# Altium footprint library SG__PCB_Chip.PcbLib: 121 footprints (part 3 of 8)
Each footprint in its own frame and in the unit in brackets; x right, y up, seen from the top. Pads: shape width x height; smd on the part's side, far side on the other; paste and mask are expansions set on the pad; w line width, h text height; cw(c..) or ccw(c..) is an arc to the next point about the centre after c.
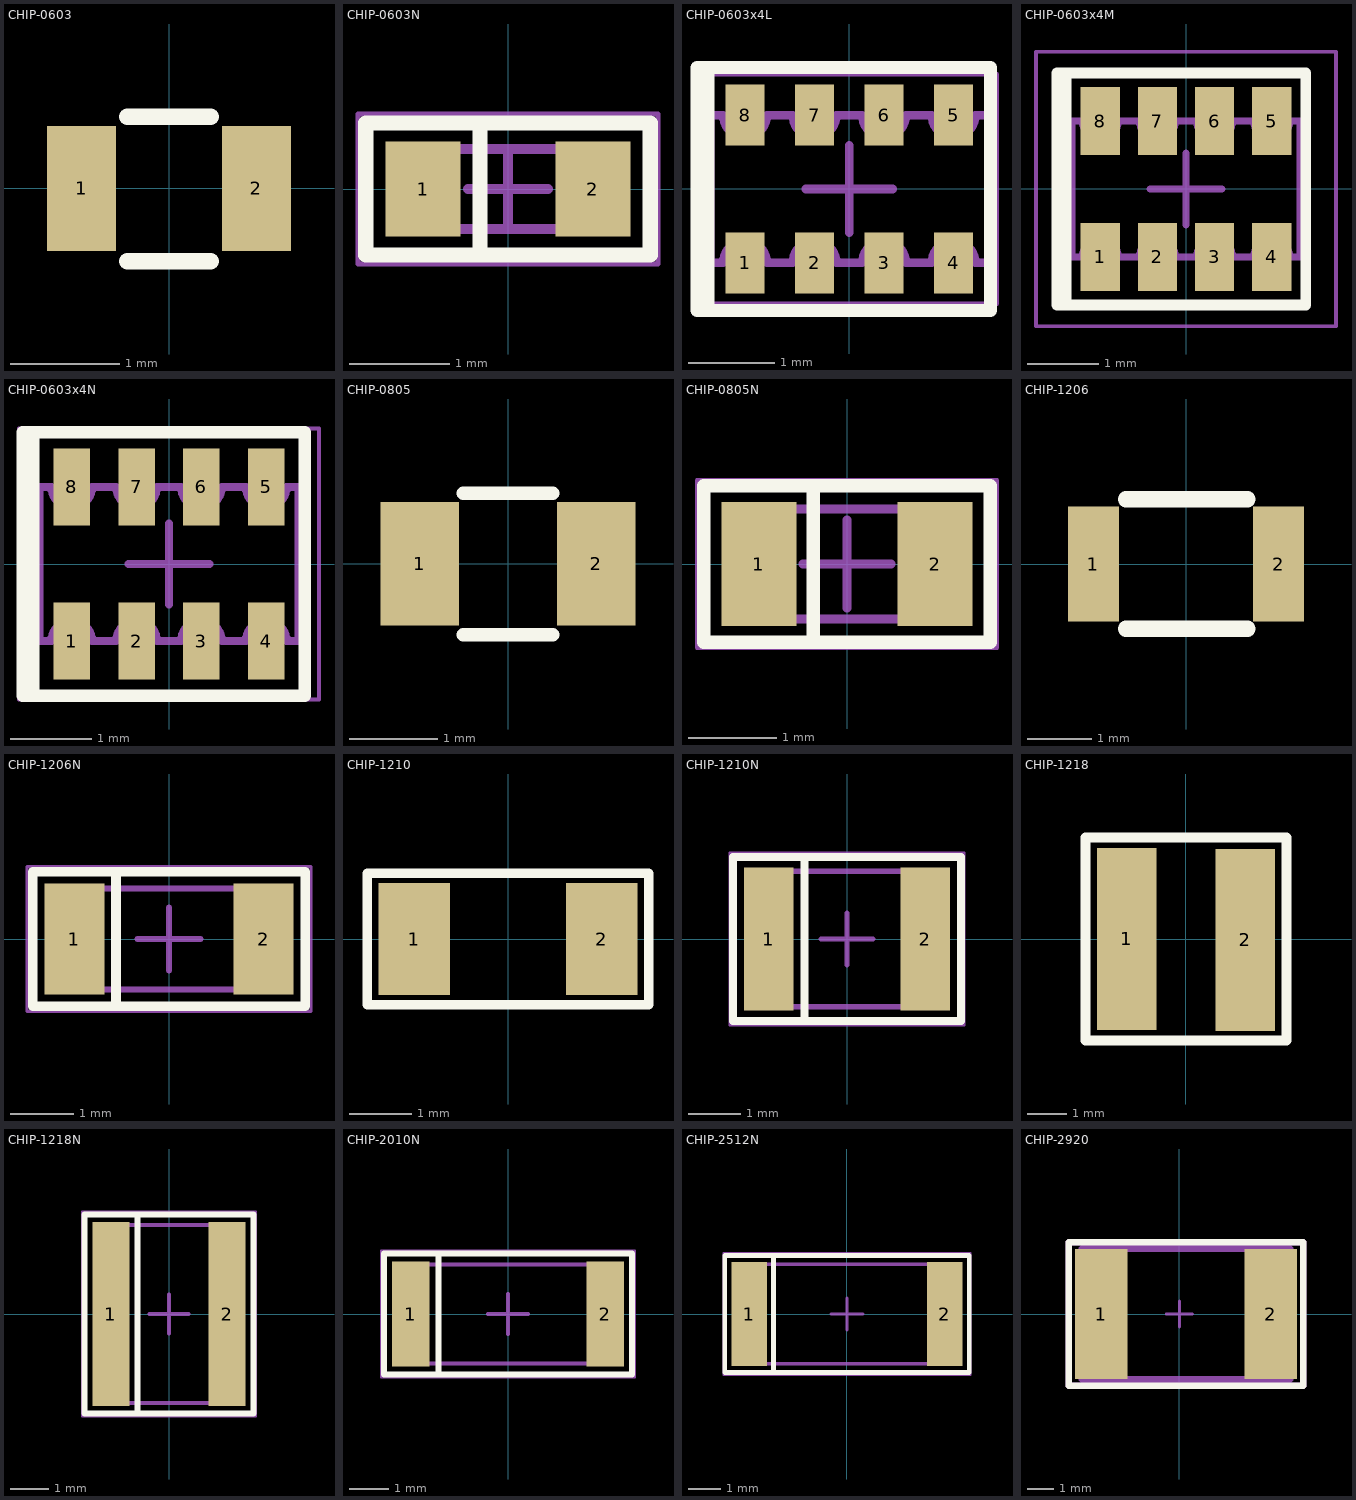
[diagram p2: the footprints below, top view; thin cyan lines are the x and y axes]

## CHIP-0603 [mm]
pads (2):
  rect 0.635x1.143 smd mask+0.05: 1(-0.8,0) 2(0.8,0)
Top Overlay:
  lines w0.152: -0.381,-0.667 0.381,-0.667 ; -0.381,0.654 0.381,0.654

## CHIP-0603N [mm]
height 0.45
pads (2):
  rect 0.75x0.95 smd: 1(-0.85,0) 2(0.85,0)
Top Overlay:
  lines w0.152: -1.27,-0.66 -1.422,-0.66 ; -0.33,0.66 -0.279,0.66 -0.279,-0.66 ; -1.422,-0.66 -1.422,-0.127 -1.422,0.66 0,0.66 1.422,0.66 1.422,0 1.422,-0.66 -1.422,-0.66
Assembly Top:
  lines w0.1: -0.8,-0.4 0.8,-0.4 0.8,0.4 -0.8,0.4 -0.8,-0.4
Courtyard Top:
  lines w0.05: -1.5,-0.75 1.5,-0.75 1.5,0.75 -1.5,0.75 -1.5,-0.75
  lines w0.1: -0.4,0 0.4,0 ; 0,-0.4 0,0.4
3D body: height 0.45, standoff 0, extent 0.55,-0.4 0.8,0.4
3D body: height 0.45, standoff 0, extent -0.8,-0.4 -0.55,0.4
3D body: height 0.45, standoff 0, extent -0.55,-0.4 0.55,0.4

## CHIP-0603x4L [mm] "Chip Array, Concave, 8-Leads, Pitch 0,80mm,  Body 3,20x1,60mm,  IPC High Density"
height 0.6
pads (8):
  rect 0.45x0.7 smd: 1(-1.2,-0.85) 2(-0.4,-0.85) 3(0.4,-0.85) 4(1.2,-0.85) 5(1.2,0.85) 6(0.4,0.85) 7(-0.4,0.85) 8(-1.2,0.85)
Top Overlay:
  lines w0.152: -1.499,-1.397 -1.753,-1.397 -1.753,0.051 -1.753,1.397 -1.448,1.397 ; 1.625,-0.838 1.625,1.397 0.584,1.397 -1.626,1.397 -1.626,0.381 -1.626,-1.397 1.346,-1.397 1.625,-1.397 1.625,-0.762
Assembly Top:
  lines w0.1: -1.6,-0.85 -1.45,-0.85 cw(c-1.2,-0.85) -0.95,-0.85 -0.65,-0.85 cw(c-0.4,-0.85) -0.15,-0.85 0.15,-0.85 cw(c0.4,-0.85) 0.65,-0.85 0.95,-0.85 cw(c1.2,-0.85) 1.45,-0.85 1.6,-0.85 1.6,0.85 1.45,0.85 cw(c1.2,0.85) 0.95,0.85 0.65,0.85 cw(c0.4,0.85) 0.15,0.85 -0.15,0.85 cw(c-0.4,0.85) -0.65,0.85 -0.95,0.85 cw(c-1.2,0.85) -1.45,0.85 -1.6,0.85 -1.6,-0.85
Courtyard Top:
  lines w0.05: -1.7,-1.32 -1.7,1.32 1.7,1.32 1.7,-1.32 -1.7,-1.32
  lines w0.1: -0.5,0 0.5,0 ; 0,-0.5 0,0.5
3D body "CAC-80P320X160-8L.step": height 0.6, standoff 0, extent -1.6,-0.85 1.6,0.85

## CHIP-0603x4M [mm] "Chip Array, Concave, 8-Leads, Pitch 0,80mm,  Body 3,20x1,60mm,  IPC Low Density"
height 0.6
pads (8):
  rect 0.55x0.95 smd: 1(-1.2,-0.95) 2(-0.4,-0.95) 3(0.4,-0.95) 4(1.2,-0.95) 5(1.2,0.95) 6(0.4,0.95) 7(-0.4,0.95) 8(-1.2,0.95)
Top Overlay:
  lines w0.152: -1.55,-1.626 -1.804,-1.626 -1.804,-0.66 -1.804,1.626 -1.423,1.626 ; 1.676,-1.397 1.676,1.626 1.371,1.626 -1.423,1.626 ; 1.676,-1.372 1.676,-1.626 -0.508,-1.626 -1.677,-1.626 -1.677,0.483 -1.677,1.626 -1.423,1.626
Assembly Top:
  lines w0.1: -1.6,-0.95 -1.45,-0.95 cw(c-1.2,-0.95) -0.95,-0.95 -0.65,-0.95 cw(c-0.4,-0.95) -0.15,-0.95 0.15,-0.95 cw(c0.4,-0.95) 0.65,-0.95 0.95,-0.95 cw(c1.2,-0.95) 1.45,-0.95 1.6,-0.95 1.6,0.95 1.45,0.95 cw(c1.2,0.95) 0.95,0.95 0.65,0.95 cw(c0.4,0.95) 0.15,0.95 -0.15,0.95 cw(c-0.4,0.95) -0.65,0.95 -0.95,0.95 cw(c-1.2,0.95) -1.45,0.95 -1.6,0.95 -1.6,-0.95
Courtyard Top:
  lines w0.05: -2.1,-1.92 -2.1,1.92 2.1,1.92 2.1,-1.92 -2.1,-1.92
  lines w0.1: -0.5,0 0.5,0 ; 0,-0.5 0,0.5
3D body "CAC-80P320X160-8M.step": height 0.6, standoff 0, extent -1.6,-0.85 1.6,0.85

## CHIP-0603x4N [mm] "Chip Array, Concave, 8-Leads, Pitch 0,80mm,  Body 3,20x1,60mm,  IPC Medium Density"
height 0.6
pads (8):
  rect 0.45x0.95 smd: 1(-1.2,-0.95) 2(-0.4,-0.95) 3(0.4,-0.95) 4(1.2,-0.95) 5(1.2,0.95) 6(0.4,0.95) 7(-0.4,0.95) 8(-1.2,0.95)
Top Overlay:
  lines w0.152: -1.6,-1.626 -1.803,-1.626 -1.803,1.473 -1.803,1.626 -1.499,1.626 ; 1.676,-1.448 1.676,1.626 1.245,1.626 -1.676,1.626 -1.676,1.295 -1.676,-1.626 -0.102,-1.626 1.676,-1.626 1.676,-1.372
Assembly Top:
  lines w0.1: -1.6,-0.95 -1.45,-0.95 cw(c-1.2,-0.95) -0.95,-0.95 -0.65,-0.95 cw(c-0.4,-0.95) -0.15,-0.95 0.15,-0.95 cw(c0.4,-0.95) 0.65,-0.95 0.95,-0.95 cw(c1.2,-0.95) 1.45,-0.95 1.6,-0.95 1.6,0.95 1.45,0.95 cw(c1.2,0.95) 0.95,0.95 0.65,0.95 cw(c0.4,0.95) 0.15,0.95 -0.15,0.95 cw(c-0.4,0.95) -0.65,0.95 -0.95,0.95 cw(c-1.2,0.95) -1.45,0.95 -1.6,0.95 -1.6,-0.95
Courtyard Top:
  lines w0.05: -1.85,-1.67 -1.85,1.67 1.85,1.67 1.85,-1.67 -1.85,-1.67
  lines w0.1: -0.5,0 0.5,0 ; 0,-0.5 0,0.5
3D body "CAC-80P320X160-8N.step": height 0.6, standoff 0, extent -1.6,-0.85 1.6,0.85

## CHIP-0805 [mil]
pads (2):
  rect 35x55 smd mask+1.97: 1(-39.37,0) 2(39.37,0)
Top Overlay:
  lines w6: -20,-31.61 20,-31.61 ; -20,31.39 20,31.39

## CHIP-0805N [mm]
height 0.5
pads (2):
  rect 0.85x1.4 smd: 1(-1,0) 2(1,0)
Top Overlay:
  lines w0.152: -1.575,-0.889 1.626,-0.889 1.626,-0.203 1.626,0.889 0.584,0.889 -1.626,0.889 -1.626,-0.381 -1.626,-0.889 -1.524,-0.889 ; -0.406,0.889 -0.381,0.889 -0.381,-0.889
Assembly Top:
  lines w0.1: -1,-0.625 1,-0.625 1,0.625 -1,0.625 -1,-0.625
Courtyard Top:
  lines w0.05: -1.7,-0.95 1.7,-0.95 1.7,0.95 -1.7,0.95 -1.7,-0.95
  lines w0.1: -0.5,0 0.5,0 ; 0,-0.5 0,0.5
3D body: height 0.5, standoff 0, extent 0.65,-0.625 1,0.625
3D body: height 0.5, standoff 0, extent -1,-0.625 -0.65,0.625
3D body: height 0.5, standoff 0, extent -0.65,-0.625 0.65,0.625

## CHIP-1206 [mm]
pads (2):
  rect 0.8x1.8 smd mask+0.05: 1(-1.45,0) 2(1.45,0)
Top Overlay:
  lines w0.254: -0.942,-1.016 0.963,-1.016 ; -0.942,1.016 0.963,1.016

## CHIP-1206N [mm]
height 0.55
pads (2):
  rect 0.95x1.75 smd: 1(-1.5,0) 2(1.5,0)
Top Overlay:
  lines w0.152: -2.007,-1.067 2.159,-1.067 2.159,1.067 1.981,1.067 -2.159,1.067 -2.159,-1.067 -1.88,-1.067 ; -0.889,-1.067 -0.838,-1.067 -0.838,0.025 -0.838,1.041
Assembly Top:
  lines w0.1: -1.55,-0.8 1.55,-0.8 1.55,0.8 -1.55,0.8 -1.55,-0.8
Courtyard Top:
  lines w0.05: -2.25,-1.15 2.25,-1.15 2.25,1.15 -2.25,1.15 -2.25,-1.15
  lines w0.1: -0.5,0 0.5,0 ; 0,-0.5 0,0.5
3D body: height 0.55, standoff 0, extent 1.1,-0.8 1.55,0.8
3D body: height 0.55, standoff 0, extent -1.55,-0.8 -1.1,0.8
3D body: height 0.55, standoff 0, extent -1.1,-0.8 1.1,0.8

## CHIP-1210 [mm]
pads (2):
  rect 1.15x1.8 smd mask+0.05: 1(-1.5,0) 2(1.5,0)
Top Overlay:
  lines w0.15: -2.25,-1.05 -2.25,1.05 2.25,1.05 2.25,-1.05 -2.25,-1.05

## CHIP-1210N [mm]
height 0.55
pads (2):
  rect 0.95x2.75 smd: 1(-1.5,0) 2(1.5,0)
Top Overlay:
  lines w0.152: -2.057,-1.575 2.184,-1.575 2.184,-0.635 2.184,1.575 0.33,1.575 -2.184,1.575 -2.184,-0.584 -2.184,-1.575 -1.702,-1.575 ; -0.864,-1.575 -0.813,-1.575 -0.813,-0.559 -0.813,1.549
Assembly Top:
  lines w0.1: -1.55,-1.3 -1.55,1.3 1.55,1.3 1.55,-1.3 -1.55,-1.3
Courtyard Top:
  lines w0.05: -2.25,-1.65 -2.25,1.65 2.25,1.65 2.25,-1.65 -2.25,-1.65
  lines w0.1: -0.5,0 0.5,0 ; 0,-0.5 0,0.5
3D body: height 0.55, standoff 0, extent -1.1,-1.3 1.1,1.3
3D body: height 0.55, standoff 0, extent -1.55,-1.3 -1.1,1.3
3D body: height 0.55, standoff 0, extent 1.1,-1.3 1.55,1.3

## CHIP-1218 [mm]
pads (2):
  rect 1.5x4.6 smd mask+0.05: 1(-1.5,0.012) 2(1.5,-0.012)
Top Overlay:
  lines w0.254: -2.55,-2.563 2.55,-2.563 2.55,-1.763 2.55,2.587 -2.55,2.587 -2.55,-2.563
Courtyard Top:
  lines w0.1: -2.55,2.587 -2.55,-2.563 2.55,-2.563 2.55,2.537 ; -2.5,2.587 2.55,2.587
3D body: height 0.55, standoff 0, extent -1.5,-2.312 1.5,2.337

## CHIP-1218N [mm]
height 0.55
pads (2):
  rect 0.95x4.75 smd: 1(-1.5,0) 2(1.5,0)
Top Overlay:
  lines w0.152: -2.007,-2.565 2.184,-2.565 2.184,-2.032 2.184,2.489 2.184,2.565 1.422,2.565 -1.549,2.565 -2.083,2.565 -2.184,2.565 -2.184,-2.54 -2.184,-2.565 -1.854,-2.565 ; -0.864,2.565 -0.813,2.565 -0.813,1.829 -0.813,-2.565
Assembly Top:
  lines w0.1: -1.55,-2.3 -1.55,2.3 1.55,2.3 1.55,-2.3 -1.55,-2.3
Courtyard Top:
  lines w0.05: -2.25,-2.65 -2.25,2.65 2.25,2.65 2.25,-2.65 -2.25,-2.65
  lines w0.1: -0.5,0 0.5,0 ; 0,-0.5 0,0.5
3D body: height 0.55, standoff 0, extent -1.1,-2.3 1.1,2.3
3D body: height 0.55, standoff 0, extent -1.55,-2.3 -1.1,2.3
3D body: height 0.55, standoff 0, extent 1.1,-2.3 1.55,2.3

## CHIP-2010N [mm]
height 0.55
pads (2):
  rect 0.95x2.65 smd: 1(-2.45,0) 2(2.45,0)
Top Overlay:
  lines w0.152: -1.88,-1.524 -1.753,-1.524 -1.753,-1.245 -1.753,1.499 ; -3.124,-1.524 -2.515,-1.524 3.124,-1.524 3.124,-1.041 3.124,1.499 3.124,1.524 2.083,1.524 -3.124,1.524 -3.124,0.508 -3.124,-1.524
Assembly Top:
  lines w0.1: -2.5,-1.25 -2.5,1.25 2.5,1.25 2.5,-1.25 -2.5,-1.25
Courtyard Top:
  lines w0.05: -3.2,-1.6 -3.2,1.6 3.2,1.6 3.2,-1.6 -3.2,-1.6
  lines w0.1: -0.5,0 0.5,0 ; 0,-0.5 0,0.5
3D body: height 0.55, standoff 0, extent -2.05,-1.25 2.05,1.25
3D body: height 0.55, standoff 0, extent -2.5,-1.25 -2.05,1.25
3D body: height 0.55, standoff 0, extent 2.05,-1.25 2.5,1.25

## CHIP-2512N [mm]
height 0.55
pads (2):
  rect 1.1x3.25 smd: 1(-3.05,0) 2(3.05,0)
Top Overlay:
  lines w0.152: -3.048,-1.829 3.81,-1.829 3.81,-1.067 3.81,1.829 3.531,1.829 -3.81,1.829 -3.81,0.991 -3.81,-1.829 -2.997,-1.829 ; -2.337,-1.829 -2.286,-1.829 -2.286,-1.245 -2.286,1.829
Assembly Top:
  lines w0.1: -3.175,-1.55 -3.175,1.55 3.175,1.55 3.175,-1.55 -3.175,-1.55
Courtyard Top:
  lines w0.05: -3.85,-1.9 -3.85,1.9 3.85,1.9 3.85,-1.9 -3.85,-1.9
  lines w0.1: -0.5,0 0.5,0 ; 0,-0.5 0,0.5
3D body: height 0.55, standoff 0, extent -2.575,-1.55 2.575,1.55
3D body: height 0.55, standoff 0, extent -3.175,-1.55 -2.575,1.55
3D body: height 0.55, standoff 0, extent 2.575,-1.55 3.175,1.55

## CHIP-2920 [mm]
height 0.55
pads (2):
  rect 2x5 smd: 1(-3,0) 2(3.5,0)
Top Overlay:
  lines w0.254: -4.25,-2.75 4.75,-2.75 4.75,2.75 -4.25,2.75 -4.25,-2.75
Assembly Top:
  lines w0.254: -3.75,-2.5 4.25,-2.5 4.25,2.5 -3.75,2.5 -3.75,-2.5
Courtyard Top:
  lines w0.1: -0.5,0 0.5,0 ; 0,-0.5 0,0.5
  lines w0.254: -4.25,-2.75 4.75,-2.75 4.75,2.75 -4.25,2.75 -4.25,-2.75
3D body "User Library-Fuse 2920.step": height 0.9, standoff 0, extent -3.36,-2.56 4,2.56